# EAGLE library part TAS5424 (library common)
Four-channel speaker amp from TI. Wattage is as follows (THD+N = 10%) - 28W/Ch @ 14.4 VDC (4 Ohm) - 45W/Ch @ 14.4 VDC (2 Ohm) - 58W/Ch @ 21 VDC (4 Ohm) - 116W/Ch @ 21VDC (2 ohm) Channels can be paralleled to support 1 Ohm loads.
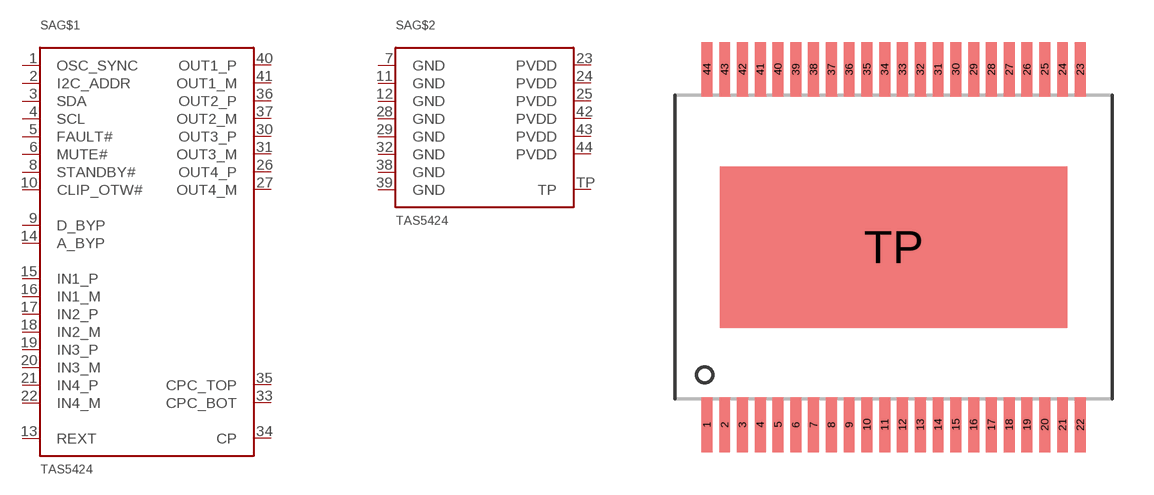
[diagram p1: symbol with the pads of R-PDSO-G44; footprint R-PDSO-G44]

Designator prefix SA; gates G$1=TAS5424 G$2=TAS5424_PWR

## TAS5424  [R-PDSO-G44]
1  G$1:OSC_SYNC
2  G$1:I2C_ADDR
3  G$1:SDA
4  G$1:SCL
5  G$1:FAULT#
6  G$1:MUTE#
7  G$2:GND
8  G$1:STANDBY#
9  G$1:D_BYP
10  G$1:CLIP_OTW#
11  G$2:GND
12  G$2:GND
13  G$1:REXT
14  G$1:A_BYP
15  G$1:IN1_P
16  G$1:IN1_M
17  G$1:IN2_P
18  G$1:IN2_M
19  G$1:IN3_P
20  G$1:IN3_M
21  G$1:IN4_P
22  G$1:IN4_M
23  G$2:PVDD
24  G$2:PVDD
25  G$2:PVDD
26  G$1:OUT4_P
27  G$1:OUT4_M
28  G$2:GND
29  G$2:GND
30  G$1:OUT3_P
31  G$1:OUT3_M
32  G$2:GND
33  G$1:CPC_BOT
34  G$1:CP
35  G$1:CPC_TOP
36  G$1:OUT2_P
37  G$1:OUT2_M
38  G$2:GND
39  G$2:GND
40  G$1:OUT1_P
41  G$1:OUT1_M
42  G$2:PVDD
43  G$2:PVDD
44  G$2:PVDD
TP  G$2:TP

## Footprint R-PDSO-G44 (pad centres in mm)
smd 0.4 x 2: 1 -6.825,-6.5; 2 -6.175,-6.5; 3 -5.525,-6.5; 4 -4.875,-6.5; 5 -4.225,-6.5; 6 -3.575,-6.5; 7 -2.925,-6.5; 8 -2.275,-6.5; 9 -1.625,-6.5; 10 -0.975,-6.5; 11 -0.325,-6.5; 12 0.325,-6.5; 13 0.975,-6.5; 14 1.625,-6.5; 15 2.275,-6.5; 16 2.925,-6.5; 17 3.575,-6.5; 18 4.225,-6.5; 19 4.875,-6.5; 20 5.525,-6.5; 21 6.175,-6.5; 22 6.825,-6.5; 23 6.825,6.5; 24 6.175,6.5; 25 5.525,6.5; 26 4.875,6.5; 27 4.225,6.5; 28 3.575,6.5; 29 2.925,6.5; 30 2.275,6.5; 31 1.625,6.5; 32 0.975,6.5; 33 0.325,6.5; 34 -0.325,6.5; 35 -0.975,6.5; 36 -1.625,6.5; 37 -2.275,6.5; 38 -2.925,6.5; 39 -3.575,6.5; 40 -4.225,6.5; 41 -4.875,6.5; 42 -5.525,6.5; 43 -6.175,6.5; 44 -6.825,6.5
smd 12.7 x 5.9: TP 0,0